# Altium footprint library Discrete_Passive.PcbLib: 313 footprints (part 7 of 20)
Each footprint in its own frame and in the unit in brackets; x right, y up, seen from the top. Pads: shape width x height; smd on the part's side, far side on the other; paste and mask are expansions set on the pad; w line width, h text height; cw(c..) or ccw(c..) is an arc to the next point about the centre after c.
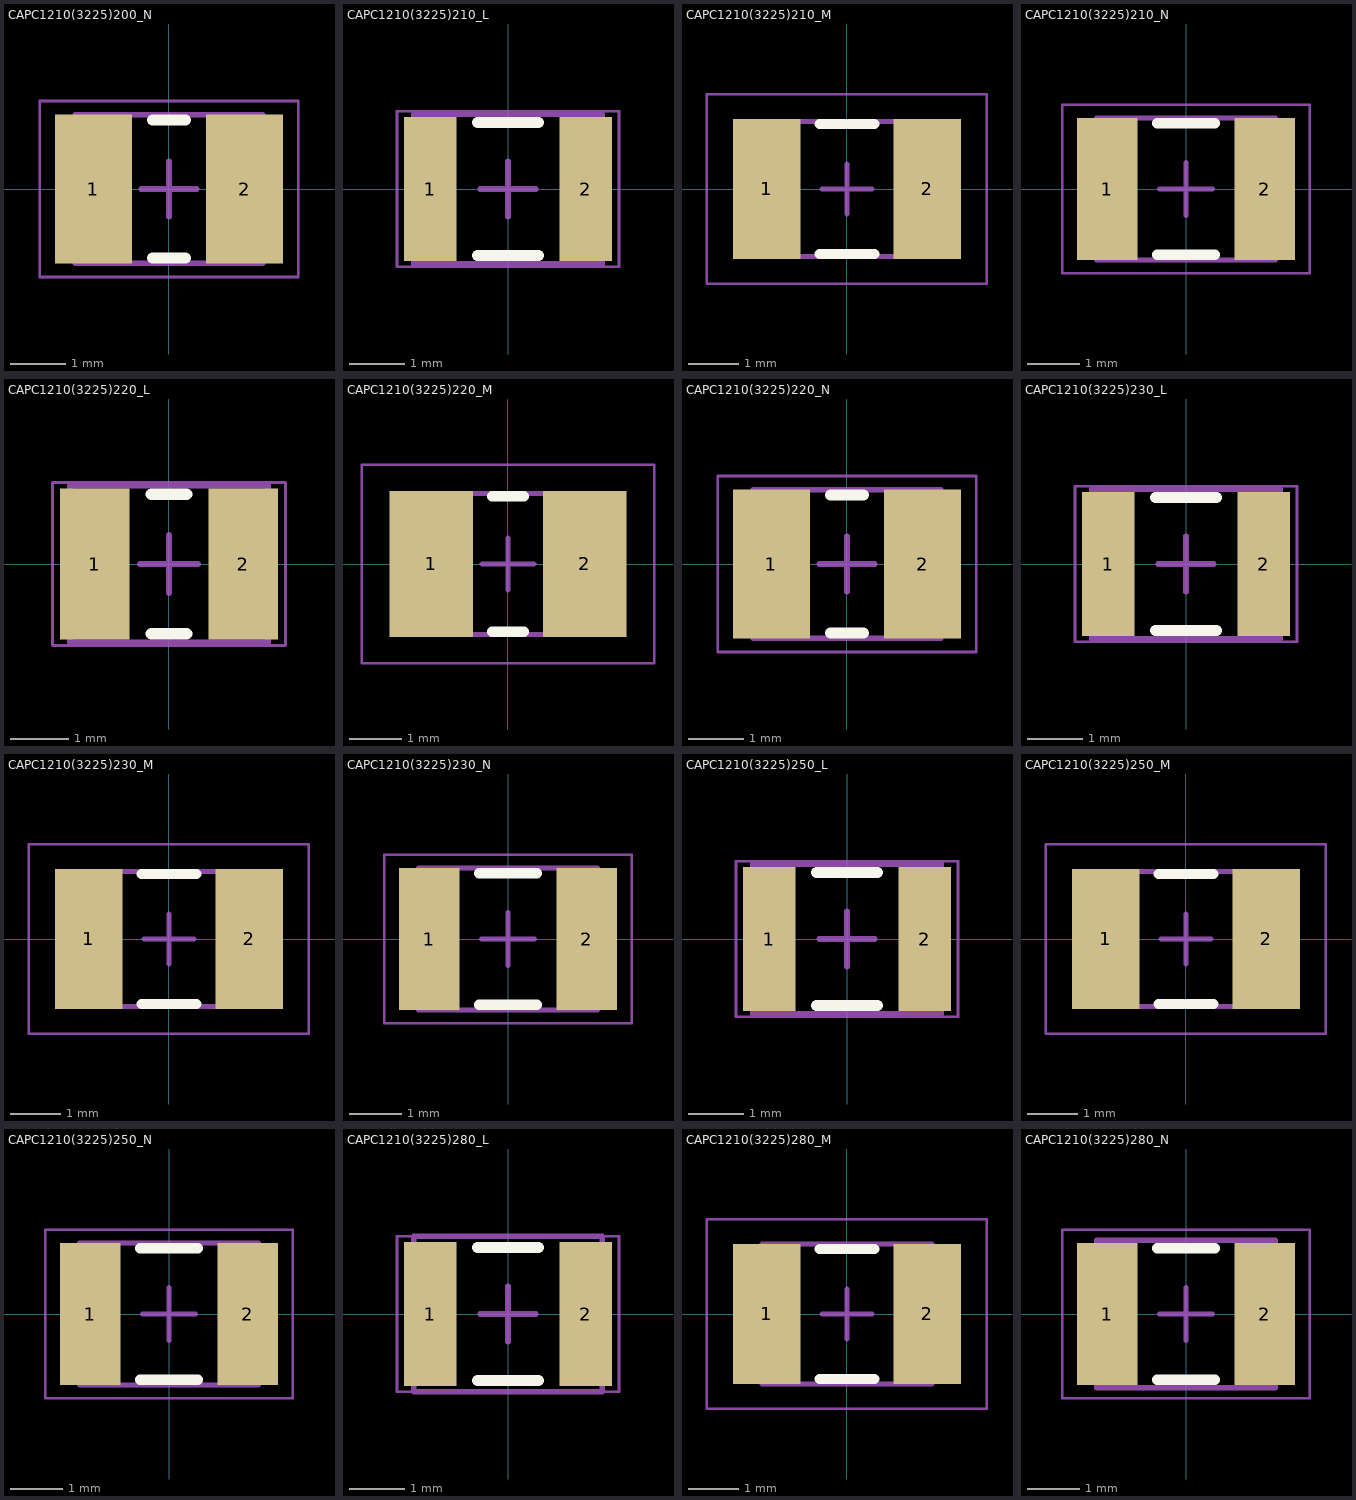
[diagram p6: the footprints below, top view; thin cyan lines are the x and y axes]

## CAPC1210(3225)200_N [mm] "Chip Capacitor, Body 3.2x2.5mm, Height 2mm, IPC Medium Density"
height 2
pads (2):
  rect 1.4x2.7 smd: 1(-1.375,0) 2(1.375,0)
Top Overlay:
  lines w0.2: -0.3,-1.25 0.3,-1.25 ; -0.3,1.25 0.3,1.25
Mechanical 13:
  lines w0.1: -1.7,-1.35 1.7,-1.35 1.7,1.35 -1.7,1.35 -1.7,-1.35
Mechanical 15:
  lines w0.05: -2.35,-1.6 2.35,-1.6 2.35,1.6 -2.35,1.6 -2.35,-1.6
  lines w0.1: -0.5,0 0.5,0 ; 0,-0.5 0,0.5
3D body: height 2, standoff 0, extent 0.95,-1.35 1.7,1.35
3D body: height 2, standoff 0, extent -1.7,-1.35 -0.95,1.35
3D body: height 2, standoff 0, extent -0.95,-1.35 0.95,1.35

## CAPC1210(3225)210_L [mm] "Chip Capacitor, Body 3.2x2.5mm, Height 2.1mm, IPC High Density"
height 2.1
pads (2):
  rect 0.95x2.6 smd: 1(-1.4,0) 2(1.4,0)
Top Overlay:
  lines w0.2: -0.55,-1.2 0.55,-1.2 ; -0.55,1.2 0.55,1.2
Mechanical 13:
  lines w0.1: -1.7,-1.35 1.7,-1.35 1.7,1.35 -1.7,1.35 -1.7,-1.35
Mechanical 15:
  lines w0.05: -2,-1.4 2,-1.4 2,1.4 -2,1.4 -2,-1.4
  lines w0.1: -0.5,0 0.5,0 ; 0,-0.5 0,0.5
3D body: height 2.1, standoff 0, extent 1.2,-1.35 1.7,1.35
3D body: height 2.1, standoff 0, extent -1.7,-1.35 -1.2,1.35
3D body: height 2.1, standoff 0, extent -1.2,-1.35 1.2,1.35

## CAPC1210(3225)210_M [mm] "Chip Capacitor, Body 3.2x2.5mm, Height 2.1mm, IPC Low Density"
height 2.1
pads (2):
  rect 1.35x2.8 smd: 1(-1.6,0) 2(1.6,0)
Top Overlay:
  lines w0.2: -0.55,-1.3 0.55,-1.3 ; -0.55,1.3 0.55,1.3
Mechanical 13:
  lines w0.1: -1.7,-1.35 1.7,-1.35 1.7,1.35 -1.7,1.35 -1.7,-1.35
Mechanical 15:
  lines w0.05: -2.8,-1.9 2.8,-1.9 2.8,1.9 -2.8,1.9 -2.8,-1.9
  lines w0.1: -0.5,0 0.5,0 ; 0,-0.5 0,0.5
3D body: height 2.1, standoff 0, extent 1.2,-1.35 1.7,1.35
3D body: height 2.1, standoff 0, extent -1.7,-1.35 -1.2,1.35
3D body: height 2.1, standoff 0, extent -1.2,-1.35 1.2,1.35

## CAPC1210(3225)210_N [mm] "Chip Capacitor, Body 3.2x2.5mm, Height 2.1mm, IPC Medium Density"
height 2.1
pads (2):
  rect 1.15x2.7 smd: 1(-1.5,0) 2(1.5,0)
Top Overlay:
  lines w0.2: -0.55,-1.25 0.55,-1.25 ; -0.55,1.25 0.55,1.25
Mechanical 13:
  lines w0.1: -1.7,-1.35 1.7,-1.35 1.7,1.35 -1.7,1.35 -1.7,-1.35
Mechanical 15:
  lines w0.05: -2.35,-1.6 2.35,-1.6 2.35,1.6 -2.35,1.6 -2.35,-1.6
  lines w0.1: -0.5,0 0.5,0 ; 0,-0.5 0,0.5
3D body: height 2.1, standoff 0, extent 1.2,-1.35 1.7,1.35
3D body: height 2.1, standoff 0, extent -1.7,-1.35 -1.2,1.35
3D body: height 2.1, standoff 0, extent -1.2,-1.35 1.2,1.35

## CAPC1210(3225)220_L [mm] "Chip Capacitor, Body 3.2x2.5mm, Height 2.2mm, IPC High Density"
height 2.2
pads (2):
  rect 1.2x2.6 smd: 1(-1.275,0) 2(1.275,0)
Top Overlay:
  lines w0.2: -0.3,-1.2 0.3,-1.2 ; -0.3,1.2 0.3,1.2
Mechanical 13:
  lines w0.1: -1.7,-1.35 1.7,-1.35 1.7,1.35 -1.7,1.35 -1.7,-1.35
Mechanical 15:
  lines w0.05: -2,-1.4 2,-1.4 2,1.4 -2,1.4 -2,-1.4
  lines w0.1: -0.5,0 0.5,0 ; 0,-0.5 0,0.5
3D body: height 2.2, standoff 0, extent 0.95,-1.35 1.7,1.35
3D body: height 2.2, standoff 0, extent -1.7,-1.35 -0.95,1.35
3D body: height 2.2, standoff 0, extent -0.95,-1.35 0.95,1.35

## CAPC1210(3225)220_M [mm] "Chip Capacitor, Body 3.2x2.5mm, Height 2.2mm, IPC Low Density"
height 2.2
pads (2):
  rect 1.6x2.8 smd: 1(-1.475,0) 2(1.475,0)
Top Overlay:
  lines w0.2: -0.3,-1.3 0.3,-1.3 ; -0.3,1.3 0.3,1.3
Mechanical 13:
  lines w0.1: -1.7,-1.35 1.7,-1.35 1.7,1.35 -1.7,1.35 -1.7,-1.35
Mechanical 15:
  lines w0.05: -2.8,-1.9 2.8,-1.9 2.8,1.9 -2.8,1.9 -2.8,-1.9
  lines w0.1: -0.5,0 0.5,0 ; 0,-0.5 0,0.5
3D body: height 2.2, standoff 0, extent 0.95,-1.35 1.7,1.35
3D body: height 2.2, standoff 0, extent -1.7,-1.35 -0.95,1.35
3D body: height 2.2, standoff 0, extent -0.95,-1.35 0.95,1.35

## CAPC1210(3225)220_N [mm] "Chip Capacitor, Body 3.2x2.5mm, Height 2.2mm, IPC Medium Density"
height 2.2
pads (2):
  rect 1.4x2.7 smd: 1(-1.375,0) 2(1.375,0)
Top Overlay:
  lines w0.2: -0.3,-1.25 0.3,-1.25 ; -0.3,1.25 0.3,1.25
Mechanical 13:
  lines w0.1: -1.7,-1.35 1.7,-1.35 1.7,1.35 -1.7,1.35 -1.7,-1.35
Mechanical 15:
  lines w0.05: -2.35,-1.6 2.35,-1.6 2.35,1.6 -2.35,1.6 -2.35,-1.6
  lines w0.1: -0.5,0 0.5,0 ; 0,-0.5 0,0.5
3D body: height 2.2, standoff 0, extent 0.95,-1.35 1.7,1.35
3D body: height 2.2, standoff 0, extent -1.7,-1.35 -0.95,1.35
3D body: height 2.2, standoff 0, extent -0.95,-1.35 0.95,1.35

## CAPC1210(3225)230_L [mm] "Chip Capacitor, Body 3.2x2.5mm, Height 2.3mm, IPC High Density"
height 2.3
pads (2):
  rect 0.95x2.6 smd: 1(-1.4,0) 2(1.4,0)
Top Overlay:
  lines w0.2: -0.55,-1.2 0.55,-1.2 ; -0.55,1.2 0.55,1.2
Mechanical 13:
  lines w0.1: -1.7,-1.35 1.7,-1.35 1.7,1.35 -1.7,1.35 -1.7,-1.35
Mechanical 15:
  lines w0.05: -2,-1.4 2,-1.4 2,1.4 -2,1.4 -2,-1.4
  lines w0.1: -0.5,0 0.5,0 ; 0,-0.5 0,0.5
3D body: height 2.3, standoff 0, extent 1.2,-1.35 1.7,1.35
3D body: height 2.3, standoff 0, extent -1.7,-1.35 -1.2,1.35
3D body: height 2.3, standoff 0, extent -1.2,-1.35 1.2,1.35

## CAPC1210(3225)230_M [mm] "Chip Capacitor, Body 3.2x2.5mm, Height 2.3mm, IPC Low Density"
height 2.3
pads (2):
  rect 1.35x2.8 smd: 1(-1.6,0) 2(1.6,0)
Top Overlay:
  lines w0.2: -0.55,-1.3 0.55,-1.3 ; -0.55,1.3 0.55,1.3
Mechanical 13:
  lines w0.1: -1.7,-1.35 1.7,-1.35 1.7,1.35 -1.7,1.35 -1.7,-1.35
Mechanical 15:
  lines w0.05: -2.8,-1.9 2.8,-1.9 2.8,1.9 -2.8,1.9 -2.8,-1.9
  lines w0.1: -0.5,0 0.5,0 ; 0,-0.5 0,0.5
3D body: height 2.3, standoff 0, extent 1.2,-1.35 1.7,1.35
3D body: height 2.3, standoff 0, extent -1.7,-1.35 -1.2,1.35
3D body: height 2.3, standoff 0, extent -1.2,-1.35 1.2,1.35

## CAPC1210(3225)230_N [mm] "Chip Capacitor, Body 3.2x2.5mm, Height 2.3mm, IPC Medium Density"
height 2.3
pads (2):
  rect 1.15x2.7 smd: 1(-1.5,0) 2(1.5,0)
Top Overlay:
  lines w0.2: -0.55,-1.25 0.55,-1.25 ; -0.55,1.25 0.55,1.25
Mechanical 13:
  lines w0.1: -1.7,-1.35 1.7,-1.35 1.7,1.35 -1.7,1.35 -1.7,-1.35
Mechanical 15:
  lines w0.05: -2.35,-1.6 2.35,-1.6 2.35,1.6 -2.35,1.6 -2.35,-1.6
  lines w0.1: -0.5,0 0.5,0 ; 0,-0.5 0,0.5
3D body: height 2.3, standoff 0, extent 1.2,-1.35 1.7,1.35
3D body: height 2.3, standoff 0, extent -1.7,-1.35 -1.2,1.35
3D body: height 2.3, standoff 0, extent -1.2,-1.35 1.2,1.35

## CAPC1210(3225)250_L [mm] "Chip Capacitor, Body 3.2x2.5mm, Height 2.5mm, IPC High Density"
height 2.5
pads (2):
  rect 0.95x2.6 smd: 1(-1.4,0) 2(1.4,0)
Top Overlay:
  lines w0.2: -0.55,-1.2 0.55,-1.2 ; -0.55,1.2 0.55,1.2
Mechanical 13:
  lines w0.1: -1.7,-1.35 1.7,-1.35 1.7,1.35 -1.7,1.35 -1.7,-1.35
Mechanical 15:
  lines w0.05: -2,-1.4 2,-1.4 2,1.4 -2,1.4 -2,-1.4
  lines w0.1: -0.5,0 0.5,0 ; 0,-0.5 0,0.5
3D body: height 2.5, standoff 0, extent 1.2,-1.35 1.7,1.35
3D body: height 2.5, standoff 0, extent -1.7,-1.35 -1.2,1.35
3D body: height 2.5, standoff 0, extent -1.2,-1.35 1.2,1.35

## CAPC1210(3225)250_M [mm] "Chip Capacitor, Body 3.2x2.5mm, Height 2.5mm, IPC Low Density"
height 2.5
pads (2):
  rect 1.35x2.8 smd: 1(-1.6,0) 2(1.6,0)
Top Overlay:
  lines w0.2: -0.55,-1.3 0.55,-1.3 ; -0.55,1.3 0.55,1.3
Mechanical 13:
  lines w0.1: -1.7,-1.35 -1.7,1.35 1.7,1.35 1.7,-1.35 -1.7,-1.35
Mechanical 15:
  lines w0.05: -2.8,-1.9 -2.8,1.9 2.8,1.9 2.8,-1.9 -2.8,-1.9
  lines w0.1: -0.5,0 0.5,0 ; 0,-0.5 0,0.5
3D body: height 2.5, standoff 0, extent -1.2,-1.35 1.2,1.35
3D body: height 2.5, standoff 0, extent -1.7,-1.35 -1.2,1.35
3D body: height 2.5, standoff 0, extent 1.2,-1.35 1.7,1.35

## CAPC1210(3225)250_N [mm] "Chip Capacitor, Body 3.2x2.5mm, Height 2.5mm, IPC Medium Density"
height 2.5
pads (2):
  rect 1.15x2.7 smd: 1(-1.5,0) 2(1.5,0)
Top Overlay:
  lines w0.2: -0.55,-1.25 0.55,-1.25 ; -0.55,1.25 0.55,1.25
Mechanical 13:
  lines w0.1: -1.7,-1.35 1.7,-1.35 1.7,1.35 -1.7,1.35 -1.7,-1.35
Mechanical 15:
  lines w0.05: -2.35,-1.6 2.35,-1.6 2.35,1.6 -2.35,1.6 -2.35,-1.6
  lines w0.1: -0.5,0 0.5,0 ; 0,-0.5 0,0.5
3D body: height 2.5, standoff 0, extent 1.2,-1.35 1.7,1.35
3D body: height 2.5, standoff 0, extent -1.7,-1.35 -1.2,1.35
3D body: height 2.5, standoff 0, extent -1.2,-1.35 1.2,1.35

## CAPC1210(3225)280_L [mm] "Chip Capacitor, Body 3.2x2.5mm, Height 2.8mm, IPC High Density"
height 2.8
pads (2):
  rect 0.95x2.6 smd: 1(-1.4,0) 2(1.4,0)
Top Overlay:
  lines w0.2: -0.55,-1.2 0.55,-1.2 ; -0.55,1.2 0.55,1.2
Mechanical 13:
  lines w0.1: -1.7,-1.4 1.7,-1.4 1.7,1.4 -1.7,1.4 -1.7,-1.4
Mechanical 15:
  lines w0.05: -2,-1.4 2,-1.4 2,1.4 -2,1.4 -2,-1.4
  lines w0.1: -0.5,0 0.5,0 ; 0,-0.5 0,0.5
3D body: height 2.8, standoff 0, extent 1.2,-1.4 1.7,1.4
3D body: height 2.8, standoff 0, extent -1.7,-1.4 -1.2,1.4
3D body: height 2.8, standoff 0, extent -1.2,-1.4 1.2,1.4

## CAPC1210(3225)280_M [mm] "Chip Capacitor, Body 3.2x2.5mm, Height 2.8mm, IPC Low Density"
height 2.8
pads (2):
  rect 1.35x2.8 smd: 1(-1.6,0) 2(1.6,0)
Top Overlay:
  lines w0.2: -0.55,-1.3 0.55,-1.3 ; -0.55,1.3 0.55,1.3
Mechanical 13:
  lines w0.1: -1.7,-1.4 1.7,-1.4 1.7,1.4 -1.7,1.4 -1.7,-1.4
Mechanical 15:
  lines w0.05: -2.8,-1.9 2.8,-1.9 2.8,1.9 -2.8,1.9 -2.8,-1.9
  lines w0.1: -0.5,0 0.5,0 ; 0,-0.5 0,0.5
3D body: height 2.8, standoff 0, extent 1.2,-1.4 1.7,1.4
3D body: height 2.8, standoff 0, extent -1.7,-1.4 -1.2,1.4
3D body: height 2.8, standoff 0, extent -1.2,-1.4 1.2,1.4

## CAPC1210(3225)280_N [mm] "Chip Capacitor, Body 3.2x2.5mm, Height 2.8mm, IPC Medium Density"
height 2.8
pads (2):
  rect 1.15x2.7 smd: 1(-1.5,0) 2(1.5,0)
Top Overlay:
  lines w0.2: -0.55,-1.25 0.55,-1.25 ; -0.55,1.25 0.55,1.25
Mechanical 13:
  lines w0.1: -1.7,-1.4 1.7,-1.4 1.7,1.4 -1.7,1.4 -1.7,-1.4
Mechanical 15:
  lines w0.05: -2.35,-1.6 2.35,-1.6 2.35,1.6 -2.35,1.6 -2.35,-1.6
  lines w0.1: -0.5,0 0.5,0 ; 0,-0.5 0,0.5
3D body: height 2.8, standoff 0, extent 1.2,-1.4 1.7,1.4
3D body: height 2.8, standoff 0, extent -1.7,-1.4 -1.2,1.4
3D body: height 2.8, standoff 0, extent -1.2,-1.4 1.2,1.4